# Altium schematic symbol library hphonglib.SchLib: 598 symbols (part 7 of 8)
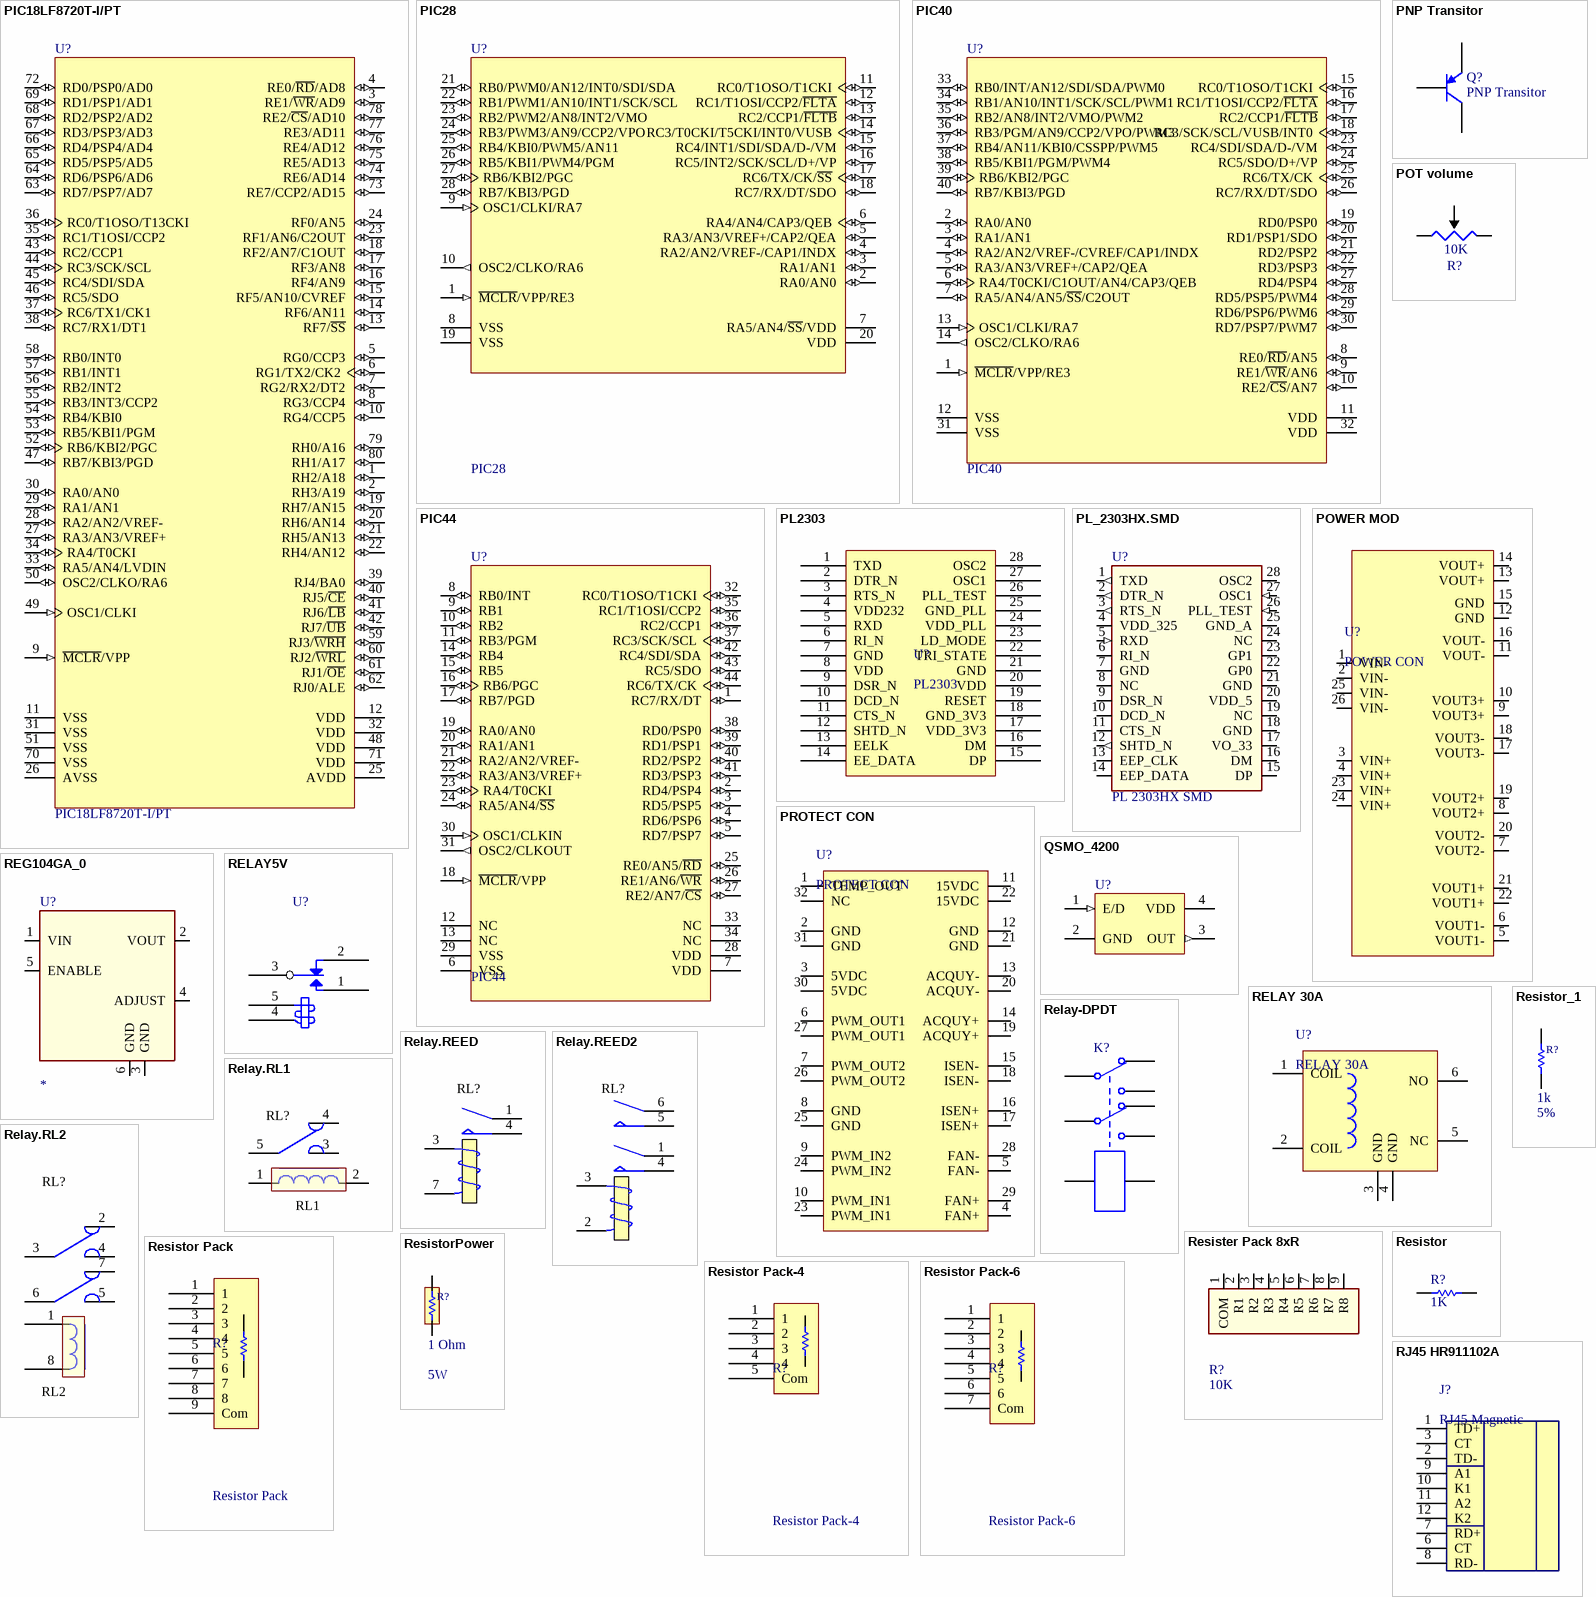
[diagram p37: symbols PIC18LF8720T-I/PT to RJ45 HR911102A]

## PIC44
designator U?
Enhanced FLASH Microcontroller, 8K (x14-Bit words) FLASH, 368 Bytes RAM, 40-Pin PDIP Lead-Free, Standard VDD Range, Industrial Temperature; Manufacturer: MicroChip; Note: 25mA sink/source per I/O.; Flash: 14 Kb; Volt: 2-5.5V; CPU Speed (MIPS): 5 MIPS; Published: 11-Oct-2004; LatestRevisionDate: 04-Mar-2005; LatestRevisionNote: Stylized 3D Model Added.; DatasheetVersion: DS39582B_2003; PackageVersion: 2003; PackageReference: PDIP600-40; Publisher: Altium Limited; PackageDescription: DIP, Plastic; 40 Leads; Row Spacing 15.24 mm; Pitch 2.54 mm; Code_JEDEC: MO-011; ComponentLink1Description: Manufacturer Link; ComponentLink1URL: http://www.microchip.com; ComponentLink2Description: Open DataSheet; ComponentLink2URL: H:\LIBRARY\LIBRARY.Datasheet\PIC16F87xA.pdf; ComponentLink3Description: Packaging Specification; ComponentLink3URL: http://ww1.microchip.com/downloads/en/PackagingSpec/00049AD.pdf; SRAM: 368 Bytes
footprint QFP-44_N (QFP, 44-Leads, Body 10x10 mm, Pitch 0.8mm)
pins: 1 RC7/RX/DT (io), 2 RD4/PSP4 (io), 3 RD5/PSP5 (io), 4 RD6/PSP6 (io), 5 RD7/PSP7 (io), 6 VSS (power), 7 VDD (power), 8 RB0/INT (io), 9 RB1 (io), 10 RB2 (io), 11 RB3/PGM (io), 12 NC, 13 NC, 14 RB4 (io), 15 RB5 (io), 16 RB6/PGC (io), 17 RB7/PGD (io), 18 ~{MCLR}/VPP (in), 19 RA0/AN0 (io), 20 RA1/AN1 (io), 21 RA2/AN2/VREF- (io), 22 RA3/AN3/VREF+ (io), 23 RA4/T0CKI (io), 24 RA5/AN4/~{SS} (io), 25 RE0/AN5/~{RD} (io), 26 RE1/AN6/~{WR} (io), 27 RE2/AN7/~{CS} (io), 28 VDD (power), 29 VSS (power), 30 OSC1/CLKIN (in), 31 OSC2/CLKOUT (out), 32 RC0/T1OSO/T1CKI (io), 33 NC, 34 NC, 35 RC1/T1OSI/CCP2 (io), 36 RC2/CCP1 (io), 37 RC3/SCK/SCL (io), 38 RD0/PSP0 (io), 39 RD1/PSP1 (io), 40 RD2/PSP2 (io), 41 RD3/PSP3 (io), 42 RC4/SDI/SDA (io), 43 RC5/SDO (io), 44 RC6/TX/CK (io)

## PL2303
designator U?
footprint PL2303 (SOP, 28-Leads, Body 10,2x5,3mm (max), Pitch 0,65mm, IPC Medium Density)
pins: 1 TXD, 2 DTR_N, 3 RTS_N, 4 VDD232, 5 RXD, 6 RI_N, 7 GND, 8 VDD, 9 DSR_N, 10 DCD_N, 11 CTS_N, 12 SHTD_N, 13 EELK, 14 EE_DATA, 15 DP, 16 DM, 17 VDD_3V3, 18 GND_3V3, 19 RESET, 20 VDD, 21 GND, 22 TRI_STATE, 23 LD_MODE, 24 VDD_PLL, 25 GND_PLL, 26 PLL_TEST, 27 OSC1, 28 OSC2

## PL_2303HX.SMD
designator U?, comment PL 2303HX SMD
USB to serial Bridge; Vendor: Digikey; Manufacturer: *; Published: 13-April-2009; Publisher: Hoang Nguyen; ComponentLink1Description: Digikey Part Link; ComponentLink2Description: Open Datasheet; ComponentLink2URL: H:\LIBRARY\LIBRARY.Datasheet\; Price: 25000VND
footprint SSOP-28 (SSOP, Plastic; 28 Leads; Body Width 5.2 mm; Pitch 0.65 mm)
footprint SSOP-28N (SSOP, Plastic; 28 Leads; Body Width 5.2 mm; Pitch 0.65 mm)
pins: 1 TXD (out), 2 DTR_N (out), 3 RTS_N (out), 4 VDD_325 (power), 5 RXD (in), 6 RI_N (io), 7 GND (power), 8 NC, 9 DSR_N (io), 10 DCD_N (io), 11 CTS_N (io), 12 SHTD_N (out), 13 EEP_CLK (io), 14 EEP_DATA (io), 15 DP (io), 16 DM (io), 17 VO_33 (power), 18 GND (power), 19 NC, 20 VDD_5 (power), 21 GND (power), 22 GP0 (io), 23 GP1 (io), 24 NC, 25 GND_A (power), 26 PLL_TEST (in), 27 OSC1 (in), 28 OSC2 (io)

## PNP Transitor
designator Q?
PNP General Purpose Amplifier; Published: 8-Jun-2000; LatestRevisionDate: 15-Jan-2003; LatestRevisionNote: PCB Footprint 'BCY-W3/D4.7' replaced; DatasheetDocument: 1997; PackageDocument: Sep-1998; PackageReference: TO-92A; Publisher: Altium Limited; Code_JEDEC: TO-92A; ComponentLink1Description: Manufacturer Link; ComponentLink1URL: http://www.fairchildsemi.com/; ComponentLink2Description: Datasheet; ComponentLink2URL: http://www.fairchildsemi.com/ds/2N%2F2N3906.pdf
footprint TO-247 (TO-247; 3 Leads; Solder Pad 35mil); pin to pad 1>3 2>1 3>2
footprint TO-92A (TO, Flat Index; 3 In-Line, Axial Leads; Body Dia. 4.5mm; Leads 0.51 x 0.48 mm (max); ECB Position)
footprint TO-3 (Oval Flange Mount with (2) Offset Leads; Pin Spacing 10.92 mm; Lead Dia. 1.06 mm (max))
footprint TO-220-3 (TO-220; 3 Leads; Solder Pad 35mil)
footprint TO-220-3-Heatsink (TO-220; Heatsink; 3 Leads; Solder Pad 35mil)
footprint TO-247-V (TO-247; Vertical; 3 Leads; Solder Pad 35mil)
pins: 1 E, 2 B, 3 C

## POT volume
designator R?  value 10K  (hidden comment: *)
POT volume; Vendor: Digikey; Published: 8-Jun-2000; LatestRevisionDate: 04-Mar-2005; LatestRevisionNote: PCB Footprint replaced.; PackageReference: J1-0603; Publisher: Altium Limited; ComponentLink1Description: Digikey Part Link; ComponentLink2Description: Open Datasheet; ComponentLink2URL: H:\LIBRARY\LIBRARY.Datasheet\; Price: 2000 VND
signal-integrity model TRIM
footprint POT volume
pins: 1, 2, 3

## POWER MOD
designator U?, comment POWER CON
footprint POWER CON
pins: 1 VIN-, 2 VIN-, 3 VIN+, 4 VIN+, 5 VOUT1-, 6 VOUT1-, 7 VOUT2-, 8 VOUT2+, 9 VOUT3+, 10 VOUT3+, 11 VOUT-, 12 GND, 13 VOUT+, 14 VOUT+, 15 GND, 16 VOUT-, 17 VOUT3-, 18 VOUT3-, 19 VOUT2+, 20 VOUT2-, 21 VOUT1+, 22 VOUT1+, 23 VIN+, 24 VIN+, 25 VIN-, 26 VIN-

## PROTECT CON
designator U?
footprint HDR2X16_CEN
pins: 1 TEMP_OUT, 2 GND, 3 5VDC, 4 FAN+, 5 FAN-, 6 PWM_OUT1, 7 PWM_OUT2, 8 GND, 9 PWM_IN2, 10 PWM_IN1, 11 15VDC, 12 GND, 13 ACQUY-, 14 ACQUY+, 15 ISEN-, 16 ISEN+, 17 ISEN+, 18 ISEN-, 19 ACQUY+, 20 ACQUY-, 21 GND, 22 15VDC, 23 PWM_IN1, 24 PWM_IN2, 25 GND, 26 PWM_OUT2, 27 PWM_OUT1, 28 FAN-, 29 FAN+, 30 5VDC, 31 GND, 32 NC

## QSMO_4200
designator U?
QSMO - 4200 SERIES, 40MHz, SURFACE MOUNT CRYSTAL OSCILLATOR; Vendor: Digikey; Published: 5-Jan-2004; DatasheetDocument: 15-Jul-02; Publisher: Altium Limited; ComponentLink1Description: Digikey Part Link; ComponentLink2Description: Open Datasheet; ComponentLink2URL: H:\LIBRARY\LIBRARY.Datasheet\
footprint QSMO_4200 (Surface Mount 40MHz Crystal, 7.5mm x 5mm (LxW))
pcadlib QSMO_4200 (Surface Mount 40MHz Crystal, 7.5mm x 5mm (LxW))
pins: 1 E/D (in) "Low Disables Clock", 2 GND (power), 3 OUT (out) "Output", 4 VDD (power)

## REG104GA_0
designator U?
ComponentLink1Description: Digikey Part Link; ComponentLink2Description: Open Datasheet; ComponentLink2URL: H:\LIBRARY\LIBRARY.Datasheet\
pins: 1 VIN, 2 VOUT, 3 GND (power), 4 ADJUST, 5 ENABLE, 6 GND (power)

## RELAY5V
designator U?  (value not drawn)
Ro le 5V; Vendor: Digikey; Published: 13-April-2009; Publisher: Hoang Nguyen; ComponentLink1Description: Digikey Part Link; ComponentLink2Description: Open Datasheet; ComponentLink2URL: H:\LIBRARY\LIBRARY.Datasheet\
footprint Relay5V
pins: 1 NO2, 2 NC2, 3 COMMON2, 4 COIL2, 5 COIL1

## RELAY 30A
designator U?
footprint RELAY 30A
pins: 1 COIL, 2 COIL, 3 GND, 4 GND, 5 NC, 6 NO

## Relay-DPDT
designator K?
Dual-Pole Dual-Throw Relay; Published: 24-Mar-1999; LatestRevisionDate: 17-Jul-2002; LatestRevisionNote: Re-released for DXP Platform.; PackageReference: DIP-P8; Publisher: Altium Limited
footprint Relay-8 (Relay; 8 Leads; Solder Pad 35mil)
pins: 1, 2, 3, 4, 5, 6, 7, 8

## Relay.REED
designator RL?  (value not drawn)
Reed relè; Vendor: Digikey; Value: *; Published: 13-April-2009; Publisher: Hoang Nguyen; ComponentLink1Description: Digikey Part Link; ComponentLink2Description: Open Datasheet; ComponentLink2URL: H:\LIBRARY\LIBRARY.Datasheet\
footprint REED
pins: 1, 3, 4, 7

## Relay.REED2
designator RL?  (value not drawn)
Reed relè 2 way; Vendor: Digikey; Value: *; Published: 13-April-2009; Publisher: Hoang Nguyen; ComponentLink1Description: Digikey Part Link; ComponentLink2Description: Open Datasheet; ComponentLink2URL: H:\LIBRARY\LIBRARY.Datasheet\
footprint REED2
pins: 1, 2, 3, 4, 5, 6

## Relay.RL1
designator RL?  (value not drawn)
Relè body 29x12mm - 1 way - FEME; Vendor: Digikey; Value: *; Published: 13-April-2009; Publisher: Hoang Nguyen; ComponentLink1Description: Digikey Part Link; ComponentLink2Description: Open Datasheet; ComponentLink2URL: H:\LIBRARY\LIBRARY.Datasheet\
footprint RL1 (Relè body 29x12mm - 1 way - FEME)
pins: 1, 2, 3, 4, 5
text: RL1

## Relay.RL2
designator RL?  (value not drawn)
Relè body 29x12mm - 2 ways - FEME; Vendor: Digikey; Value: *; Published: 13-April-2009; Publisher: Hoang Nguyen; ComponentLink1Description: Digikey Part Link; ComponentLink2Description: Open Datasheet; ComponentLink2URL: H:\LIBRARY\LIBRARY.Datasheet\
footprint RL2 (Relè body 29x12mm - 2 way - FEME)
footprint RL2N (Relè body 29x12mm - 2 way - FEME)
pins: 1, 2, 3, 4, 5, 6, 7, 8
text: RL2

## Resister Pack 8xR
designator R?, comment 10K
8xR Package; Vendor: Digikey; Publisher: Hoang Nguyen; Published: 13-April-2009; ComponentLink1Description: Digikey Part Link; ComponentLink2Description: Open Datasheet; Value: 10K; ComponentLink2URL: H:\LIBRARY\LIBRARY.Datasheet\
footprint Rpack8
footprint Rpack8M
pins: 1 COM, 2 R1, 3 R2, 4 R3, 5 R4, 6 R5, 7 R6, 8 R7, 9 R8

## Resistor
designator R?  value 1K  (hidden comment: Resistor)
Published: 8-Jun-2000; LatestRevisionDate: 17-Jul-2002; LatestRevisionNote: Re-released for DXP Platform.; PackageReference: AXIAL-0.3; Publisher: Altium Limited
footprint Res 49mm (10W) (Resistor; 2 Leads; 10W; Solder Pad 35mil)
footprint Res 52mm (15W) (Resistor; 2 Leads; 15W; Solder Pad 35mil)
footprint R-0805 (Chip Resistor; Body 2.0 x 1.3 mm (LxW typ))
footprint Res 10mm (1/2W) (Resistor; 2 Leads; 1/2W; Solder Pad 35mil)
footprint Res 25mm (5W) (Resistor; 2 Leads; 5W; Solder Pad 35mil)
footprint Res 18mm (1W) (Resistor; 2 Leads; 1W; Solder Pad 35mil)
footprint Res 25mm (3W) (Resistor; 2 Leads; 3W; Solder Pad 35mil)
pins: 1, 2

## Resistor Pack
designator R?
Isolated Resistor Network; Published: 24-Mar-1999; LatestRevisionDate: 17-Jul-2002; LatestRevisionNote: Re-released for DXP Platform.; PackageReference: SSOP16; Publisher: Altium Limited; Code_JEDEC: MO-150-AC
footprint Res Array (Resistor Array, 9-pin)
pins: 1, 2, 3, 4, 5, 6, 7, 8, 9 Com

## Resistor Pack-4
designator R?
Isolated Resistor Network; Published: 24-Mar-1999; LatestRevisionDate: 17-Jul-2002; LatestRevisionNote: Re-released for DXP Platform.; PackageReference: SSOP16; Publisher: Altium Limited; Code_JEDEC: MO-150-AC
footprint Res Array-4 (Resistor Array, 9-pin)
pins: 1, 2, 3, 4, 5 Com

## Resistor Pack-6
designator R?
Isolated Resistor Network; Published: 24-Mar-1999; LatestRevisionDate: 17-Jul-2002; LatestRevisionNote: Re-released for DXP Platform.; PackageReference: SSOP16; Publisher: Altium Limited; Code_JEDEC: MO-150-AC
footprint Res Array-6 (Resistor Array; 6 Leads; Solder Pad 35mil)
pins: 1, 2, 3, 4, 5, 6, 7 Com

## Resistor_1
designator R?, comment Tollerance: 5%  (hidden comment: 1k)
Resistor; AEMS Code: 1200430; Vendor: Digikey; Published: 17-3-2009; Publisher: Hoang Nguyen; ComponentLink1Description: Digikey Part Link; ComponentLink2Description: Open Datasheet; ComponentLink2URL: H:\LIBRARY\LIBRARY.Datasheet\; Value: 1k
footprint R1608-0603 (Resister Chip 0603 package)
footprint R2012-0805 (Resister Chip 0805 package)
footprint Res (Res 8mm*2mm)
footprint ResN (Res 8mm*2mm)
pins: 1, 2

## ResistorPower
designator R?, comment Power: 5W  (hidden comment: 1 Ohm)
Power Resistor; AEMS Code: 1200430; Vendor: Digikey; Published: 17-3-2009; Publisher: Hoang Nguyen; ComponentLink1Description: Digikey Part Link; ComponentLink2Description: Open Datasheet; ComponentLink2URL: H:\LIBRARY\LIBRARY.Datasheet\; Value: 1 Ohm
footprint Res5W (Kich thuoc 22(mm) * 10(mm))
footprint Res1W (Kich thuoc 17(mm) * 5(mm))
footprint Res1W_Vertical (Res 8mm*2mm)
footprint Res1W_N
footprint Res1W_Vert_N (Res 8mm*2mm)
footprint Res5W_N (Kich thuoc 22(mm) * 10(mm))
pins: 1, 2

## RJ45 HR911102A
designator J?, comment RJ45 Magnetic
Price: 40.000VND; ComponentLink2Description: Open DataSheet; ComponentLink2URL: H:\LIBRARY\LIBRARY.Datasheet\RJ45.pdf
footprint RJ45 with magnetic
pins: 1 TD+, 2 TD-, 3 CT, 6 CT, 7 RD+, 8 RD-, 9 A1, 10 K1, 11 A2, 12 K2

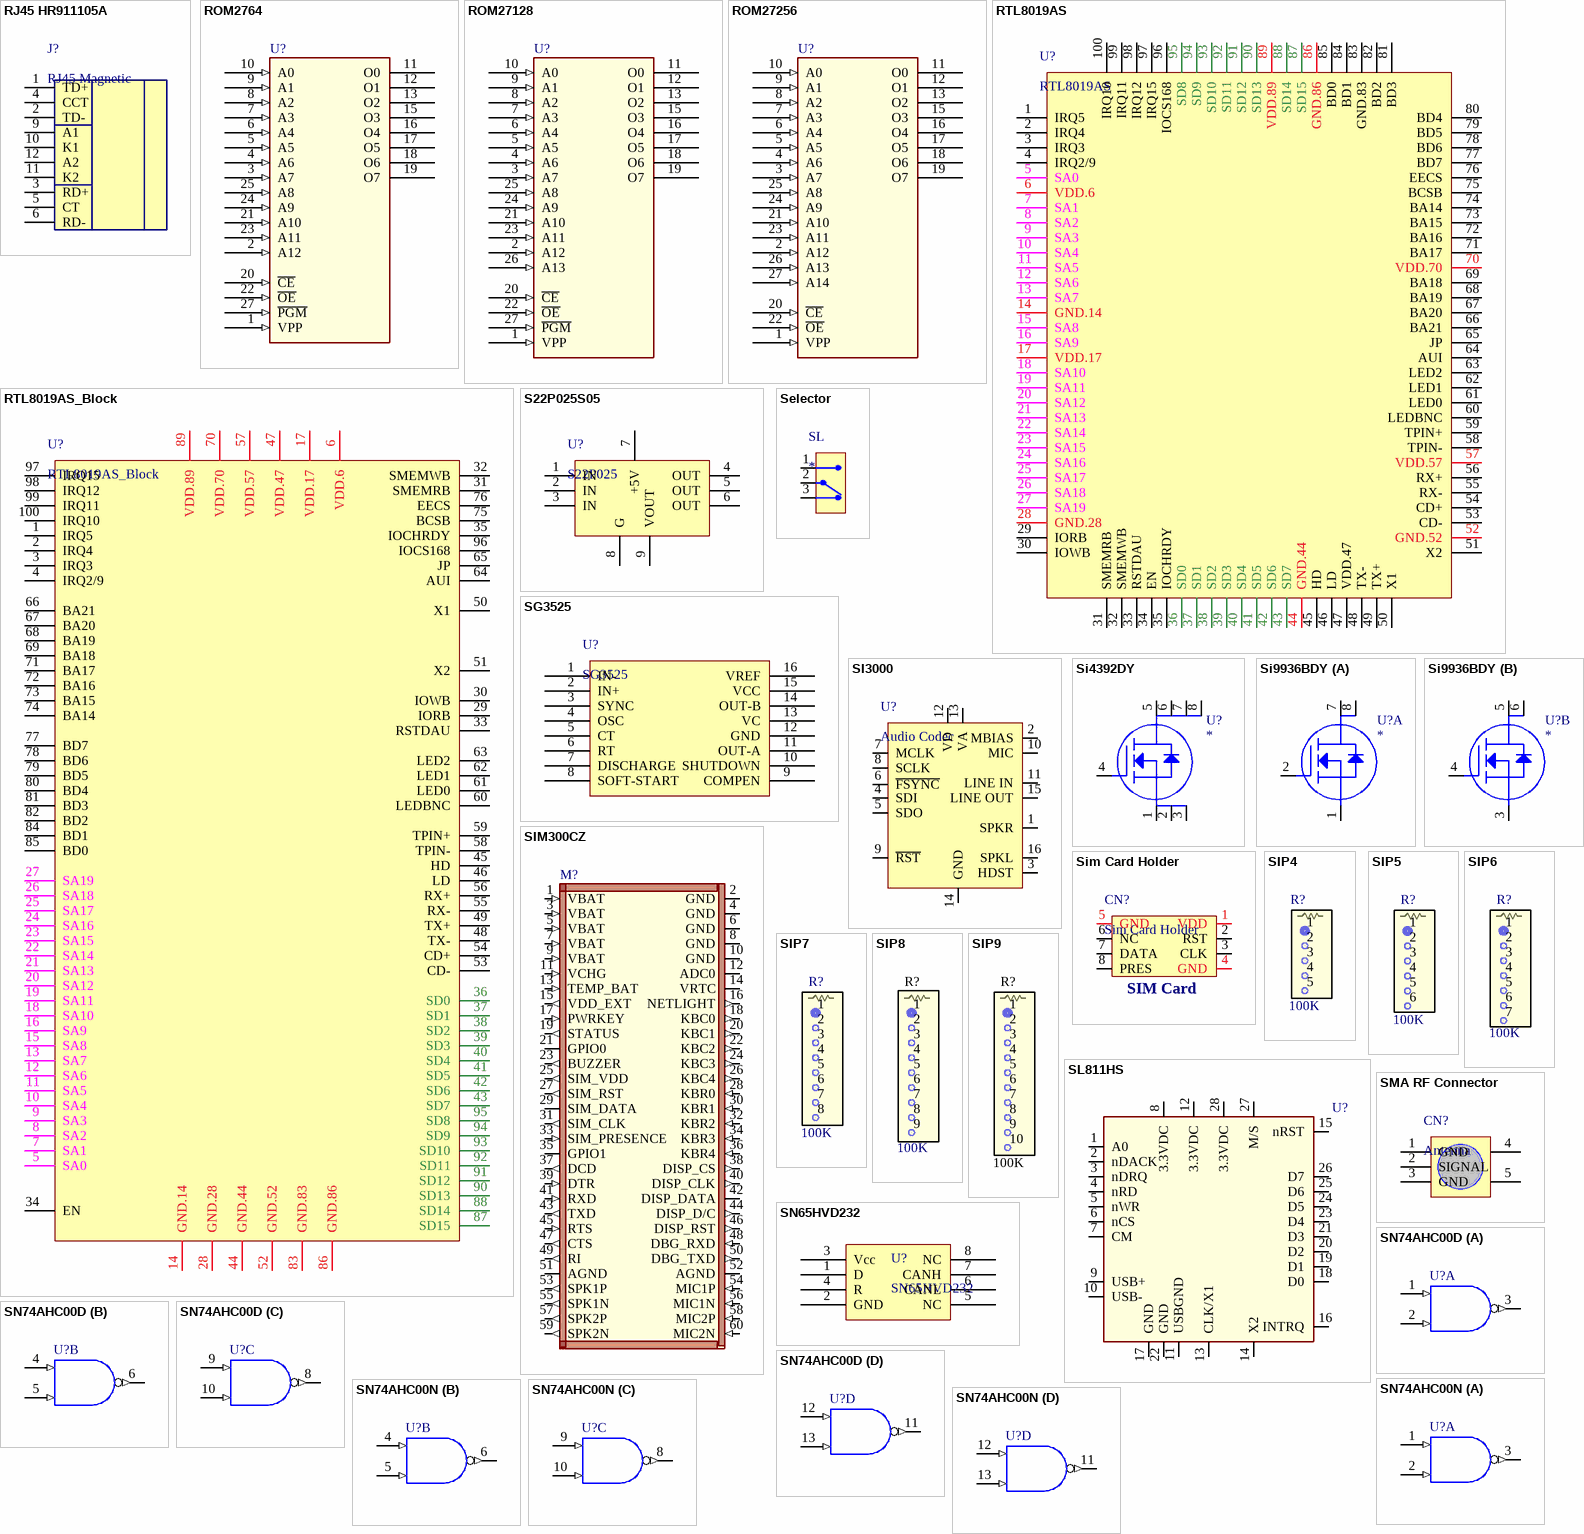
[diagram p23: symbols RJ45 HR911105A to SN74AHC00N]

## RJ45 HR911105A
designator J?, comment RJ45 Magnetic
Price: 40.000VND; ComponentLink2Description: Open DataSheet; ComponentLink2URL: H:\LIBRARY\LIBRARY.Datasheet\RJ45.pdf
footprint RJ45 with magnetic
pins: 1 TD+, 2 TD-, 3 RD+, 4 CCT, 5 CT, 6 RD-, 9 A1, 10 K1, 11 K2, 12 A2

## ROM2764
designator U?  (value not drawn)
ROM Memory; Vendor: Digikey; Published: 13-April-2009; Publisher: Hoang Nguyen; ComponentLink1Description: Digikey Part Link; ComponentLink2Description: Open Datasheet; ComponentLink2URL: H:\LIBRARY\LIBRARY.Datasheet\
pins: 1 VPP (in), 2 A12 (in), 3 A7 (in), 4 A6 (in), 5 A5 (in), 6 A4 (in), 7 A3 (in), 8 A2 (in), 9 A1 (in), 10 A0 (in), 11 O0 (hiz), 12 O1 (hiz), 13 O2 (hiz), 14 GND (power) hidden to GND, 15 O3 (hiz), 16 O4 (hiz), 17 O5 (hiz), 18 O6 (hiz), 19 O7 (hiz), 20 ~{CE} (in), 21 A10 (in), 22 ~{OE} (in), 23 A11 (in), 24 A9 (in), 25 A8 (in), 27 ~{PGM} (in), 28 VCC (power) hidden to VCC

## ROM27128
designator U?  (value not drawn)
Vendor: Digikey; Published: 13-April-2009; Publisher: Hoang Nguyen; ComponentLink1Description: Digikey Part Link; ComponentLink2Description: Open Datasheet; ComponentLink2URL: H:\LIBRARY\LIBRARY.Datasheet\
pins: 1 VPP (in), 2 A12 (in), 3 A7 (in), 4 A6 (in), 5 A5 (in), 6 A4 (in), 7 A3 (in), 8 A2 (in), 9 A1 (in), 10 A0 (in), 11 O0 (hiz), 12 O1 (hiz), 13 O2 (hiz), 14 GND (power) hidden to GND, 15 O3 (hiz), 16 O4 (hiz), 17 O5 (hiz), 18 O6 (hiz), 19 O7 (hiz), 20 ~{CE} (in), 21 A10 (in), 22 ~{OE} (in), 23 A11 (in), 24 A9 (in), 25 A8 (in), 26 A13 (in), 27 ~{PGM} (in), 28 VCC (power) hidden to VCC

## ROM27256
designator U?  (value not drawn)
Vendor: Digikey; Published: 13-April-2009; Publisher: Hoang Nguyen; ComponentLink1Description: Digikey Part Link; ComponentLink2Description: Open Datasheet; ComponentLink2URL: H:\LIBRARY\LIBRARY.Datasheet\
pins: 1 VPP (in), 2 A12 (in), 3 A7 (in), 4 A6 (in), 5 A5 (in), 6 A4 (in), 7 A3 (in), 8 A2 (in), 9 A1 (in), 10 A0 (in), 11 O0 (hiz), 12 O1 (hiz), 13 O2 (hiz), 14 GND (power) hidden to GND, 15 O3 (hiz), 16 O4 (hiz), 17 O5 (hiz), 18 O6 (hiz), 19 O7 (hiz), 20 ~{CE} (in), 21 A10 (in), 22 ~{OE} (in), 23 A11 (in), 24 A9 (in), 25 A8 (in), 26 A13 (in), 27 A14 (in), 28 VCC (power) hidden to VCC

## RTL8019AS
designator U?
Realtek Full-Duplex Ethernet  Controller with Plug and Play Function; Voltage: 5V; Price: 80.000VND; Manufacturer: Realtek; ComponentLink2Description: Open Datasheet; ComponentLink2URL: H:\LIBRARY\LIBRARY.Datasheet\RTL8019as.pdf
footprint Model Name (Footprint not found)
footprint RTL8019AS (100-Pin Ceramic Quad Flat Pack 0.635 mm Pitch, IPC Medium Density)
pins: 1 IRQ5 (power), 2 IRQ4 (power), 3 IRQ3, 4 IRQ2/9, 5 SA0, 6 VDD.6, 7 SA1, 8 SA2, 9 SA3, 10 SA4, 11 SA5, 12 SA6, 13 SA7, 14 GND.14 (power), 15 SA8, 16 SA9, 17 VDD.17, 18 SA10, 19 SA11, 20 SA12, 21 SA13, 22 SA14, 23 SA15, 24 SA16, 25 SA17, 26 SA18, 27 SA19, 28 GND.28, 29 IORB, 30 IOWB, 31 SMEMRB, 32 SMEMWB, 33 RSTDAU, 34 EN, 35 IOCHRDY, 36 SD0, 37 SD1, 38 SD2, 39 SD3, 40 SD4, 41 SD5, 42 SD6, 43 SD7, 44 GND.44, 45 HD, 46 LD, 47 VDD.47, 48 TX-, 49 TX+, 50 X1, 51 X2, 52 GND.52, 53 CD-, 54 CD+, 55 RX-, 56 RX+, 57 VDD.57, 58 TPIN-, 59 TPIN+, 60 LEDBNC, 61 LED0, 62 LED1, 63 LED2, 64 AUI, 65 JP, 66 BA21, 67 BA20, 68 BA19, 69 BA18, 70 VDD.70, 71 BA17, 72 BA16, 73 BA15, 74 BA14, 75 BCSB, 76 EECS, 77 BD7, 78 BD6, 79 BD5, 80 BD4, 81 BD3, 82 BD2, 83 GND.83, 84 BD1, 85 BD0, 86 GND.86, 87 SD15, 88 SD14, 89 VDD.89, 90 SD13, 91 SD12, 92 SD11, 93 SD10, 94 SD9, 95 SD8, 96 IOCS168, 97 IRQ15, 98 IRQ12, 99 IRQ11, 100 IRQ10

## RTL8019AS_Block
designator U?
Realtek Full-Duplex Ethernet  Controller with Plug and Play Function; Voltage: 5V; Price: 80.000VND; Manufacturer: Realtek; ComponentLink2Description: Open Datasheet; ComponentLink2URL: H:\LIBRARY\LIBRARY.Datasheet\RTL8019as.pdf
footprint Model Name (Footprint not found)
footprint RTL8019AS (100-Pin Ceramic Quad Flat Pack 0.635 mm Pitch, IPC Medium Density)
pins: 1 IRQ5 (power), 2 IRQ4 (power), 3 IRQ3, 4 IRQ2/9, 5 SA0, 6 VDD.6, 7 SA1, 8 SA2, 9 SA3, 10 SA4, 11 SA5, 12 SA6, 13 SA7, 14 GND.14 (power), 15 SA8, 16 SA9, 17 VDD.17, 18 SA10, 19 SA11, 20 SA12, 21 SA13, 22 SA14, 23 SA15, 24 SA16, 25 SA17, 26 SA18, 27 SA19, 28 GND.28, 29 IORB, 30 IOWB, 31 SMEMRB, 32 SMEMWB, 33 RSTDAU, 34 EN, 35 IOCHRDY, 36 SD0, 37 SD1, 38 SD2, 39 SD3, 40 SD4, 41 SD5, 42 SD6, 43 SD7, 44 GND.44, 45 HD, 46 LD, 47 VDD.47, 48 TX-, 49 TX+, 50 X1, 51 X2, 52 GND.52, 53 CD-, 54 CD+, 55 RX-, 56 RX+, 57 VDD.57, 58 TPIN-, 59 TPIN+, 60 LEDBNC, 61 LED0, 62 LED1, 63 LED2, 64 AUI, 65 JP, 66 BA21, 67 BA20, 68 BA19, 69 BA18, 70 VDD.70, 71 BA17, 72 BA16, 73 BA15, 74 BA14, 75 BCSB, 76 EECS, 77 BD7, 78 BD6, 79 BD5, 80 BD4, 81 BD3, 82 BD2, 83 GND.83, 84 BD1, 85 BD0, 86 GND.86, 87 SD15, 88 SD14, 89 VDD.89, 90 SD13, 91 SD12, 92 SD11, 93 SD10, 94 SD9, 95 SD8, 96 IOCS168, 97 IRQ15, 98 IRQ12, 99 IRQ11, 100 IRQ10

## S22P025S05
designator U?, comment S22P025
footprint S22P025S05 (Tamura)
pins: 1 IN, 2 IN, 3 IN, 4 OUT, 5 OUT, 6 OUT, 7 +5V, 8 G, 9 VOUT

## Selector
designator SL
ComponentLink2URL: H:\LIBRARY\LIBRARY.Datasheet\
footprint Selector (Footprint not found)
pins: 1, 2, 3

## SG3525
designator U?
footprint DIP16 (DIP; 16 Leads; Row Spacing 7.62 mm; Pitch 2.54 mm)
pins: 1 IN-, 2 IN+, 3 SYNC, 4 OSC, 5 CT, 6 RT, 7 DISCHARGE, 8 SOFT-START, 9 COMPEN, 10 SHUTDOWN, 11 OUT-A, 12 GND, 13 VC, 14 OUT-B, 15 VCC, 16 VREF

## SI3000
designator U?, comment Audio Codec
VOICEBAND CODEC WITH MICROPHONE/SPEAKER DRIVE; Manufacturer: Silicon Lab; Power Supply: 3V3 - 5V; Headphone Resistor: 32 Ohm; Sample rate: 4-12 kHz; Mic Pre-Amp: 30dB
footprint SOIC16_150_N (Small Outline; 16 Leads; Body Width 3.5 mm; Pitch 1.27 mm)
pins: 1 SPKR, 2 MBIAS, 3 HDST, 4 SDI, 5 SDO, 6 ~{FSYNC}, 7 MCLK, 8 SCLK, 9 ~{RST}, 10 MIC, 11 LINE IN, 12 VD, 13 VA, 14 GND, 15 LINE OUT, 16 SPKL

## Si4392DY
designator U?
ComponentLink1Description: Digikey Part Link; ComponentLink2Description: Open Datasheet; ComponentLink2URL: H:\LIBRARY\LIBRARY.Datasheet\
pins: 1 S (power), 2 S (power), 3 S (power), 4 G, 5 D (power), 6 D (power), 7 D (power), 8 D (power)

## Si9936BDY
designator U?
ComponentLink1Description: Digikey Part Link; ComponentLink2Description: Open Datasheet; ComponentLink2URL: H:\LIBRARY\LIBRARY.Datasheet\
part A pins: 1 S (power), 2 G, 7 D (power), 8 D (power)
part B pins: 3 S (power), 4 G, 5 D (power), 6 D (power)

## SIM300CZ
designator M?  (value not drawn)
SIM300CZ; Manufacturer: SimCom; Publisher: Hoang Nguyen; ComponentLink1Description: Digikey Part link; ComponentLink2Description: Open DataSheet; ComponentLink2URL: H:\LIBRARY\LIBRARY.Datasheet\
footprint ASTRON 1590060-093
footprint SIM300CZ Module (GSM Module)
pins: 1 VBAT (in), 2 GND (power), 3 VBAT (in), 4 GND (power), 5 VBAT (in), 6 GND (power), 7 VBAT (in), 8 GND (power), 9 VBAT (in), 10 GND (power), 11 VCHG (in), 12 ADC0, 13 TEMP_BAT (in), 14 VRTC, 15 VDD_EXT (out), 16 NETLIGHT (out), 17 PWRKEY (in), 18 KBC0 (out), 19 STATUS (out), 20 KBC1 (out), 21 GPIO0 (io), 22 KBC2 (out), 23 BUZZER (out), 24 KBC3 (out), 25 SIM_VDD (out), 26 KBC4 (out), 27 SIM_RST (out), 28 KBR0 (in), 29 SIM_DATA (io), 30 KBR1 (in), 31 SIM_CLK (out), 32 KBR2 (in), 33 SIM_PRESENCE (in), 34 KBR3 (in), 35 GPIO1 (io), 36 KBR4 (in), 37 DCD (out), 38 DISP_CS (out), 39 DTR (in), 40 DISP_CLK (out), 41 RXD (in), 42 DISP_DATA (io), 43 TXD (out), 44 DISP_D/C (out), 45 RTS (in), 46 DISP_RST (out), 47 CTS (out), 48 DBG_RXD (in), 49 RI (out), 50 DBG_TXD (out), 51 AGND (power), 52 AGND (power), 53 SPK1P (out), 54 MIC1P (in), 55 SPK1N (out), 56 MIC1N (in), 57 SPK2P (out), 58 MIC2P (in), 59 SPK2N (out), 60 MIC2N (in)

## Sim Card Holder
designator CN?
ComponentLink2Description: Open DataSheet; ComponentLink2URL: H:\LIBRARY\LIBRARY.Datasheet\
footprint Sim card holder
pins: 1 VDD, 2 RST, 3 CLK, 4 GND, 5 GND, 6 NC, 7 DATA, 8 PRES
text: SIM Card

## SIP4
designator R?  value 100K  (hidden comment: *)
4 resistors array single in line - 2.54; Vendor: Digikey; Published: 13-April-2009; Publisher: Hoang Nguyen; ComponentLink1Description: Digikey Part Link; ComponentLink2Description: Open Datasheet; ComponentLink2URL: H:\LIBRARY\LIBRARY.Datasheet\
footprint SIP-4
pins: 1 C, 2 R1, 3 R2, 4 R3, 5 R4

## SIP5
designator R?  value 100K  (hidden comment: *)
5 resistors array single in line - 2.54; Vendor: Digikey; Published: 13-April-2009; Publisher: Hoang Nguyen; ComponentLink1Description: Digikey Part Link; ComponentLink2Description: Open Datasheet; ComponentLink2URL: H:\LIBRARY\LIBRARY.Datasheet\
footprint SIP-5
pins: 1 C, 2 R1, 3 R2, 4 R3, 5 R4, 6 R5

## SIP6
designator R?  value 100K  (hidden comment: *)
6 resistors array single in line - 2.54; Vendor: Digikey; Published: 13-April-2009; Publisher: Hoang Nguyen; ComponentLink1Description: Digikey Part Link; ComponentLink2Description: Open Datasheet; ComponentLink2URL: H:\LIBRARY\LIBRARY.Datasheet\
footprint SIP-6
pins: 1 C, 2 R1, 3 R2, 4 R3, 5 R4, 6 R5, 7 R6

## SIP7
designator R?  value 100K  (hidden comment: *)
7 resistors array single in line - 2.54; Vendor: Digikey; Published: 13-April-2009; Publisher: Hoang Nguyen; ComponentLink1Description: Digikey Part Link; ComponentLink2Description: Open Datasheet; ComponentLink2URL: H:\LIBRARY\LIBRARY.Datasheet\
footprint SIP-7
pins: 1 C, 2 R1, 3 R2, 4 R3, 5 R4, 6 R5, 7 R6, 8 R7

## SIP8
designator R?  value 100K  (hidden comment: *)
8 resistors array single in line - 2.54; Vendor: Digikey; Published: 13-April-2009; Publisher: Hoang Nguyen; ComponentLink1Description: Digikey Part Link; ComponentLink2Description: Open Datasheet; ComponentLink2URL: H:\LIBRARY\LIBRARY.Datasheet\
footprint SIP-8
pins: 1 C, 2 R1, 3 R2, 4 R3, 5 R4, 6 R5, 7 R6, 8 R7, 9 R8

## SIP9
designator R?  value 100K  (hidden comment: *)
9 resistors array single in line - 2.54; Vendor: Digikey; Published: 13-April-2009; Publisher: Hoang Nguyen; ComponentLink1Description: Digikey Part Link; ComponentLink2Description: Open Datasheet; ComponentLink2URL: H:\LIBRARY\LIBRARY.Datasheet\
footprint SIP-9
pins: 1 C, 2 R1, 3 R2, 4 R3, 5 R4, 6 R5, 7 R6, 8 R7, 9 R8, 10 R9

## SL811HS
designator U?  (value not drawn)
Embedded USB host/slave controller; Manufacturer: Cypress Semiconductor; Vendor: Digikey; Published: 13-April-2009; Publisher: Hoang Nguyen; ComponentLink1Description: Digikey Part Link; ComponentLink2Description: Open Datasheet; ComponentLink2URL: H:\LIBRARY\LIBRARY.Datasheet\
footprint PLCC-28 (Footprint not found)
pins: 1 A0, 2 nDACK, 3 nDRQ, 4 nRD, 5 nWR, 6 nCS, 7 CM, 8 3.3VDC, 9 USB+, 10 USB-, 11 USBGND, 12 3.3VDC, 13 CLK/X1, 14 X2, 15 nRST, 16 INTRQ, 17 GND, 18 D0, 19 D1, 20 D2, 21 D3, 22 GND, 23 D4, 24 D5, 25 D6, 26 D7, 27 M/S, 28 3.3VDC

## SMA RF Connector
designator CN?, comment Antenna
footprint SMA RF Connector
pins: 1 GND, 2 SIGNAL, 3 GND, 4, 5

## SN65HVD232
designator U?
3.3-V CAN Transceivers
footprint SOIC-8N (SOIC, 8-Leads, Body 4.9x3.9mm, Pitch 1.27mm, IPC High Density)
pins: 1 D, 2 GND, 3 Vcc, 4 R, 5 NC, 6 CANL, 7 CANH, 8 NC

## SN74AHC00D
designator U?
Quadruple 2-Input Positive-NAND Gate; Published: 8-Jun-2000; LatestRevisionDate: 13-Apr-2006; LatestRevisionNote: IPC-7351 Footprint Added.; DatasheetVersion: Jun-1998; PackageVersion: Jan-1998; PackageReference: D014; Publisher: Altium Limited; PackageDescription: 14-Pin Small Outline Integrated Circuit 1.27 mm Pitch; Code_IPC: SOIC127P600-14; ComponentLink1Description: Manufacturer Link; ComponentLink1URL: http://www.ti.com/; ComponentLink2Description: Datasheet; ComponentLink2URL: http://www-s.ti.com/sc/ds/sn74ahc00.pdf; ComponentLink3Description: Packaging Specification; ComponentLink3URL: http://focus.ti.com/lit/ml/mpds177/mpds177.pdf
footprint SSOP-14 (Shrink Small Outline, Plastic, Thin; 14 Leads; Body Width 4.4 mm; Pitch 0.65 mm)
signal-integrity model SN74AHC00D
footprint SOIC14 (Small Outline; 14 Leads; Body Width 3.9 mm; Pitch 1.27 mm)
pins on every part: 7 GND (power) hidden to GND, 14 VCC (power) hidden to VCC
part A pins: 1 A (in), 2 B (in), 3 Y (out)
part B pins: 4 A (in), 5 B (in), 6 Y (out)
part C pins: 8 Y (out), 9 A (in), 10 B (in)
part D pins: 11 Y (out), 12 A (in), 13 B (in)

## SN74AHC00N
designator U?
Quadruple 2-Input Positive-NAND Gate; Published: 8-Jun-2000; LatestRevisionDate: 04-Mar-2005; LatestRevisionNote: Stylized 3D Model Added.; DatasheetVersion: Jun-1998; PackageVersion: Oct-1995; PackageReference: N014; Publisher: Altium Limited; PackageDescription: DIP; 14 Leads; Row Spacing 7.62 mm; Pitch 2.54 mm; ComponentLink1Description: Manufacturer Link; ComponentLink1URL: http://www.ti.com/; ComponentLink2Description: Datasheet; ComponentLink2URL: http://www-s.ti.com/sc/ds/sn74ahc00.pdf; ComponentLink3Description: Packaging Specification; ComponentLink3URL: http://focus.ti.com/lit/ml/mpdi002c/mpdi002c.pdf
footprint DIP14N (DIP; 14 Leads; Row Spacing 7.62 mm; Pitch 2.54 mm)
signal-integrity model SN74AHC00N
pins on every part: 7 GND (power) hidden to GND, 14 VCC (power) hidden to VCC
part A pins: 1 A (in), 2 B (in), 3 Y (out)
part B pins: 4 A (in), 5 B (in), 6 Y (out)
part C pins: 8 Y (out), 9 A (in), 10 B (in)
part D pins: 11 Y (out), 12 A (in), 13 B (in)

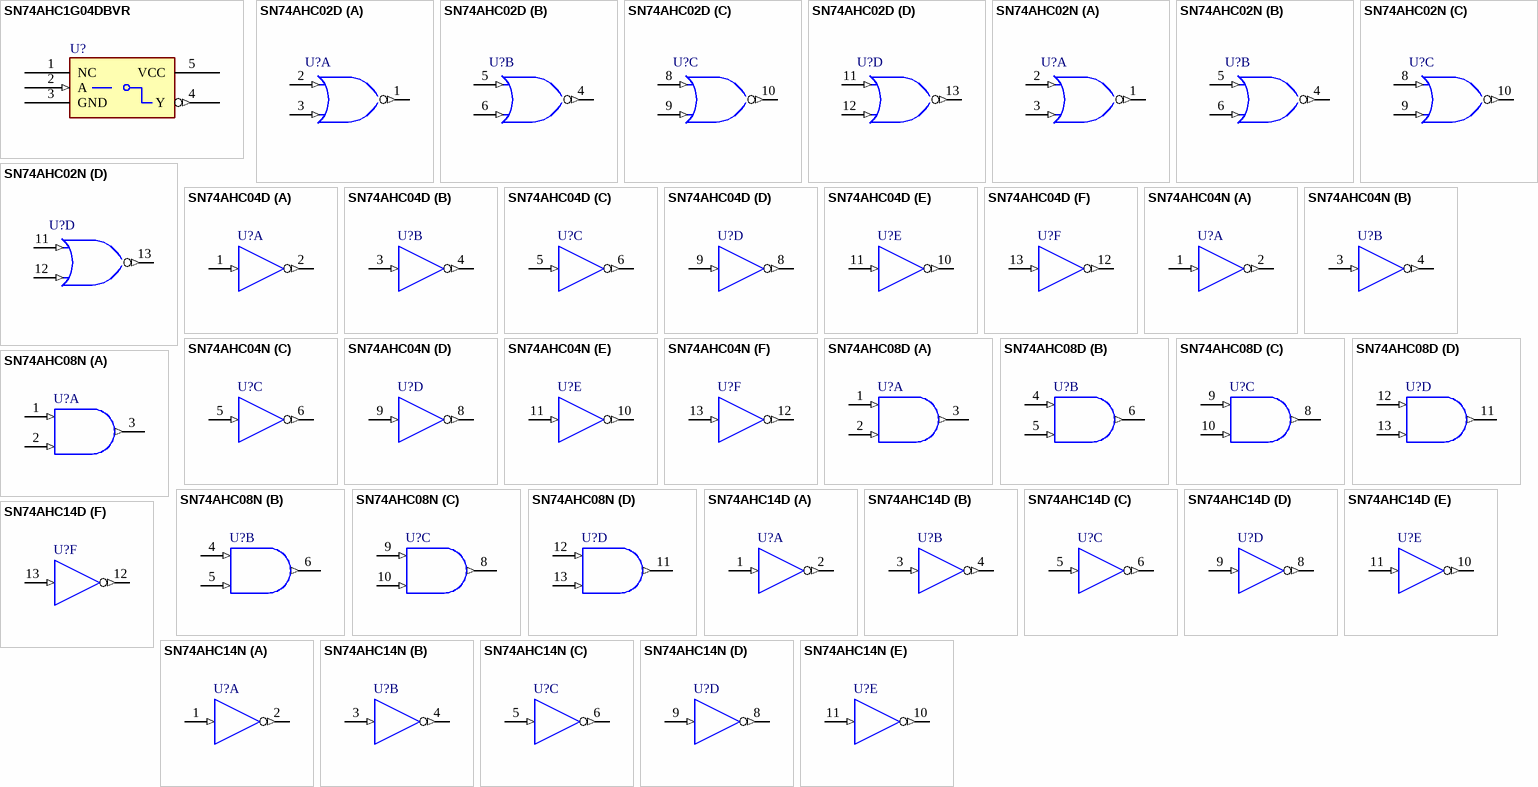
[diagram p24: symbols SN74AHC1G04DBVR to SN74AHC14N]

## SN74AHC1G04DBVR
designator U?
Single Gate Inverter; Vendor: Digikey; Published: 5-Jan-2004; DatasheetDocument: Sep-2003; Publisher: Altium Limited; ComponentLink1Description: Digikey Part Link; ComponentLink2Description: Open Datasheet; ComponentLink2URL: H:\LIBRARY\LIBRARY.Datasheet\
footprint SO-G5/P.95 (Small Outline; 5 Leads; Body 2 x 1.25 mm (LxW))
pcadlib SO-G5/P.95 (Small Outline; 5 Leads; Body 2 x 1.25 mm (LxW))
pins: 1 NC, 2 A (in), 3 GND (power), 4 Y (out), 5 VCC (power)

## SN74AHC02D
designator U?
Quadruple 2-Input Positive-NOR Gate; Published: 8-Jun-2000; LatestRevisionDate: 13-Apr-2006; LatestRevisionNote: IPC-7351 Footprint Added.; DatasheetVersion: Apr-1999; PackageVersion: Jan-1998; PackageReference: D014; Publisher: Altium Limited; PackageDescription: 14-Pin Small Outline Integrated Circuit 1.27 mm Pitch; Code_IPC: SOIC127P600-14; ComponentLink1Description: Manufacturer Link; ComponentLink1URL: http://www.ti.com/; ComponentLink2Description: Datasheet; ComponentLink2URL: http://www-s.ti.com/sc/ds/sn74ahc02.pdf; ComponentLink3Description: Packaging Specification; ComponentLink3URL: http://focus.ti.com/lit/ml/mpds177/mpds177.pdf
footprint SSOP-14 (Shrink Small Outline, Plastic, Thin; 14 Leads; Body Width 4.4 mm; Pitch 0.65 mm)
signal-integrity model SN74AHC02D
footprint SOIC14 (Small Outline; 14 Leads; Body Width 3.9 mm; Pitch 1.27 mm)
pins on every part: 7 GND (power) hidden to GND, 14 VCC (power) hidden to VCC
part A pins: 1 Y (out), 2 A (in), 3 B (in)
part B pins: 4 Y (out), 5 A (in), 6 B (in)
part C pins: 8 A (in), 9 B (in), 10 Y (out)
part D pins: 11 A (in), 12 B (in), 13 Y (out)

## SN74AHC02N
designator U?
Quadruple 2-Input Positive-NOR Gate; Published: 8-Jun-2000; LatestRevisionDate: 04-Mar-2005; LatestRevisionNote: Stylized 3D Model Added.; DatasheetVersion: Apr-1999; PackageVersion: Oct-1995; PackageReference: N014; Publisher: Altium Limited; PackageDescription: DIP; 14 Leads; Row Spacing 7.62 mm; Pitch 2.54 mm; ComponentLink1Description: Manufacturer Link; ComponentLink1URL: http://www.ti.com/; ComponentLink2Description: Datasheet; ComponentLink2URL: http://www-s.ti.com/sc/ds/sn74ahc02.pdf; ComponentLink3Description: Packaging Specification; ComponentLink3URL: http://focus.ti.com/lit/ml/mpdi002c/mpdi002c.pdf
footprint DIP14N (DIP; 14 Leads; Row Spacing 7.62 mm; Pitch 2.54 mm)
signal-integrity model SN74AHC02N
pins on every part: 7 GND (power) hidden to GND, 14 VCC (power) hidden to VCC
part A pins: 1 Y (out), 2 A (in), 3 B (in)
part B pins: 4 Y (out), 5 A (in), 6 B (in)
part C pins: 8 A (in), 9 B (in), 10 Y (out)
part D pins: 11 A (in), 12 B (in), 13 Y (out)

## SN74AHC04D
designator U?
Hex Inverter; Published: 8-Jun-2000; LatestRevisionDate: 13-Apr-2006; LatestRevisionNote: IPC-7351 Footprint Added.; DatasheetVersion: Jun-1998; PackageVersion: Jan-1998; PackageReference: D014; Publisher: Altium Limited; PackageDescription: 14-Pin Small Outline Integrated Circuit 1.27 mm Pitch; Code_IPC: SOIC127P600-14; ComponentLink1Description: Manufacturer Link; ComponentLink1URL: http://www.ti.com/; ComponentLink2Description: Datasheet; ComponentLink2URL: http://www-s.ti.com/sc/ds/sn74ahc04.pdf; ComponentLink3Description: Packaging Specification; ComponentLink3URL: http://focus.ti.com/lit/ml/mpds177/mpds177.pdf
footprint SSOP-14 (Shrink Small Outline, Plastic, Thin; 14 Leads; Body Width 4.4 mm; Pitch 0.65 mm)
signal-integrity model SN74AHC04D
footprint SOIC14 (Small Outline; 14 Leads; Body Width 3.9 mm; Pitch 1.27 mm)
pins on every part: 7 GND (power) hidden to GND, 14 VCC (power) hidden to VCC
part A pins: 1 A (in), 2 Y (out)
part B pins: 3 A (in), 4 Y (out)
part C pins: 5 A (in), 6 Y (out)
part D pins: 8 Y (out), 9 A (in)
part E pins: 10 Y (out), 11 A (in)
part F pins: 12 Y (out), 13 A (in)

## SN74AHC04N
designator U?
Hex Inverter; Published: 8-Jun-2000; LatestRevisionDate: 04-Mar-2005; LatestRevisionNote: Stylized 3D Model Added.; DatasheetVersion: Jun-1998; PackageVersion: Oct-1995; PackageReference: N014; Publisher: Altium Limited; PackageDescription: DIP; 14 Leads; Row Spacing 7.62 mm; Pitch 2.54 mm; ComponentLink1Description: Manufacturer Link; ComponentLink1URL: http://www.ti.com/; ComponentLink2Description: Datasheet; ComponentLink2URL: http://www-s.ti.com/sc/ds/sn74ahc04.pdf; ComponentLink3Description: Packaging Specification; ComponentLink3URL: http://focus.ti.com/lit/ml/mpdi002c/mpdi002c.pdf
footprint DIP14N (DIP; 14 Leads; Row Spacing 7.62 mm; Pitch 2.54 mm)
signal-integrity model SN74AHC04N
pins on every part: 7 GND (power) hidden to GND, 14 VCC (power) hidden to VCC
part A pins: 1 A (in), 2 Y (out)
part B pins: 3 A (in), 4 Y (out)
part C pins: 5 A (in), 6 Y (out)
part D pins: 8 Y (out), 9 A (in)
part E pins: 10 Y (out), 11 A (in)
part F pins: 12 Y (out), 13 A (in)

## SN74AHC08D
designator U?
Quadruple 2-Input Positive-AND Gate; Published: 8-Jun-2000; LatestRevisionDate: 13-Apr-2006; LatestRevisionNote: IPC-7351 Footprint Added.; DatasheetVersion: Jul-1998; PackageVersion: Jan-1998; PackageReference: D014; Publisher: Altium Limited; PackageDescription: 14-Pin Small Outline Integrated Circuit 1.27 mm Pitch; Code_IPC: SOIC127P600-14; ComponentLink1Description: Manufacturer Link; ComponentLink1URL: http://www.ti.com/; ComponentLink2Description: Datasheet; ComponentLink2URL: http://www-s.ti.com/sc/ds/sn74ahc08.pdf; ComponentLink3Description: Packaging Specification; ComponentLink3URL: http://focus.ti.com/lit/ml/mpds177/mpds177.pdf
footprint SSOP-14 (Shrink Small Outline, Plastic, Thin; 14 Leads; Body Width 4.4 mm; Pitch 0.65 mm)
signal-integrity model SN74AHC08D
footprint SOIC14 (Small Outline; 14 Leads; Body Width 3.9 mm; Pitch 1.27 mm)
pins on every part: 7 GND (power) hidden to GND, 14 VCC (power) hidden to VCC
part A pins: 1 A (in), 2 B (in), 3 Y (out)
part B pins: 4 A (in), 5 B (in), 6 Y (out)
part C pins: 8 Y (out), 9 A (in), 10 B (in)
part D pins: 11 Y (out), 12 A (in), 13 B (in)

## SN74AHC08N
designator U?
Quadruple 2-Input Positive-AND Gate; Published: 8-Jun-2000; LatestRevisionDate: 04-Mar-2005; LatestRevisionNote: Stylized 3D Model Added.; DatasheetVersion: Jul-1998; PackageVersion: Oct-1995; PackageReference: N014; Publisher: Altium Limited; PackageDescription: DIP; 14 Leads; Row Spacing 7.62 mm; Pitch 2.54 mm; ComponentLink1Description: Manufacturer Link; ComponentLink1URL: http://www.ti.com/; ComponentLink2Description: Datasheet; ComponentLink2URL: http://www-s.ti.com/sc/ds/sn74ahc08.pdf; ComponentLink3Description: Packaging Specification; ComponentLink3URL: http://focus.ti.com/lit/ml/mpdi002c/mpdi002c.pdf
footprint DIP14N (DIP; 14 Leads; Row Spacing 7.62 mm; Pitch 2.54 mm)
signal-integrity model SN74AHC08N
pins on every part: 7 GND (power) hidden to GND, 14 VCC (power) hidden to VCC
part A pins: 1 A (in), 2 B (in), 3 Y (out)
part B pins: 4 A (in), 5 B (in), 6 Y (out)
part C pins: 8 Y (out), 9 A (in), 10 B (in)
part D pins: 11 Y (out), 12 A (in), 13 B (in)

## SN74AHC14D
designator U?
Hex Schmitt-Trigger Inverter; Published: 8-Jun-2000; LatestRevisionDate: 13-Apr-2006; LatestRevisionNote: IPC-7351 Footprint Added.; DatasheetVersion: Jul-1998; PackageVersion: Jan-1998; PackageReference: D014; Publisher: Altium Limited; PackageDescription: 14-Pin Small Outline Integrated Circuit 1.27 mm Pitch; Code_IPC: SOIC127P600-14; ComponentLink1Description: Manufacturer Link; ComponentLink1URL: http://www.ti.com/; ComponentLink2Description: Datasheet; ComponentLink2URL: http://www-s.ti.com/sc/ds/sn74ahc14.pdf; ComponentLink3Description: Packaging Specification; ComponentLink3URL: http://focus.ti.com/lit/ml/mpds177/mpds177.pdf
footprint SSOP-14 (Shrink Small Outline, Plastic, Thin; 14 Leads; Body Width 4.4 mm; Pitch 0.65 mm)
signal-integrity model SN74AHC14D
footprint SOIC14 (Small Outline; 14 Leads; Body Width 3.9 mm; Pitch 1.27 mm)
pins on every part: 7 GND (power) hidden to GND, 14 VCC (power) hidden to VCC
part A pins: 1 A (in), 2 Y (out)
part B pins: 3 A (in), 4 Y (out)
part C pins: 5 A (in), 6 Y (out)
part D pins: 8 Y (out), 9 A (in)
part E pins: 10 Y (out), 11 A (in)
part F pins: 12 Y (out), 13 A (in)

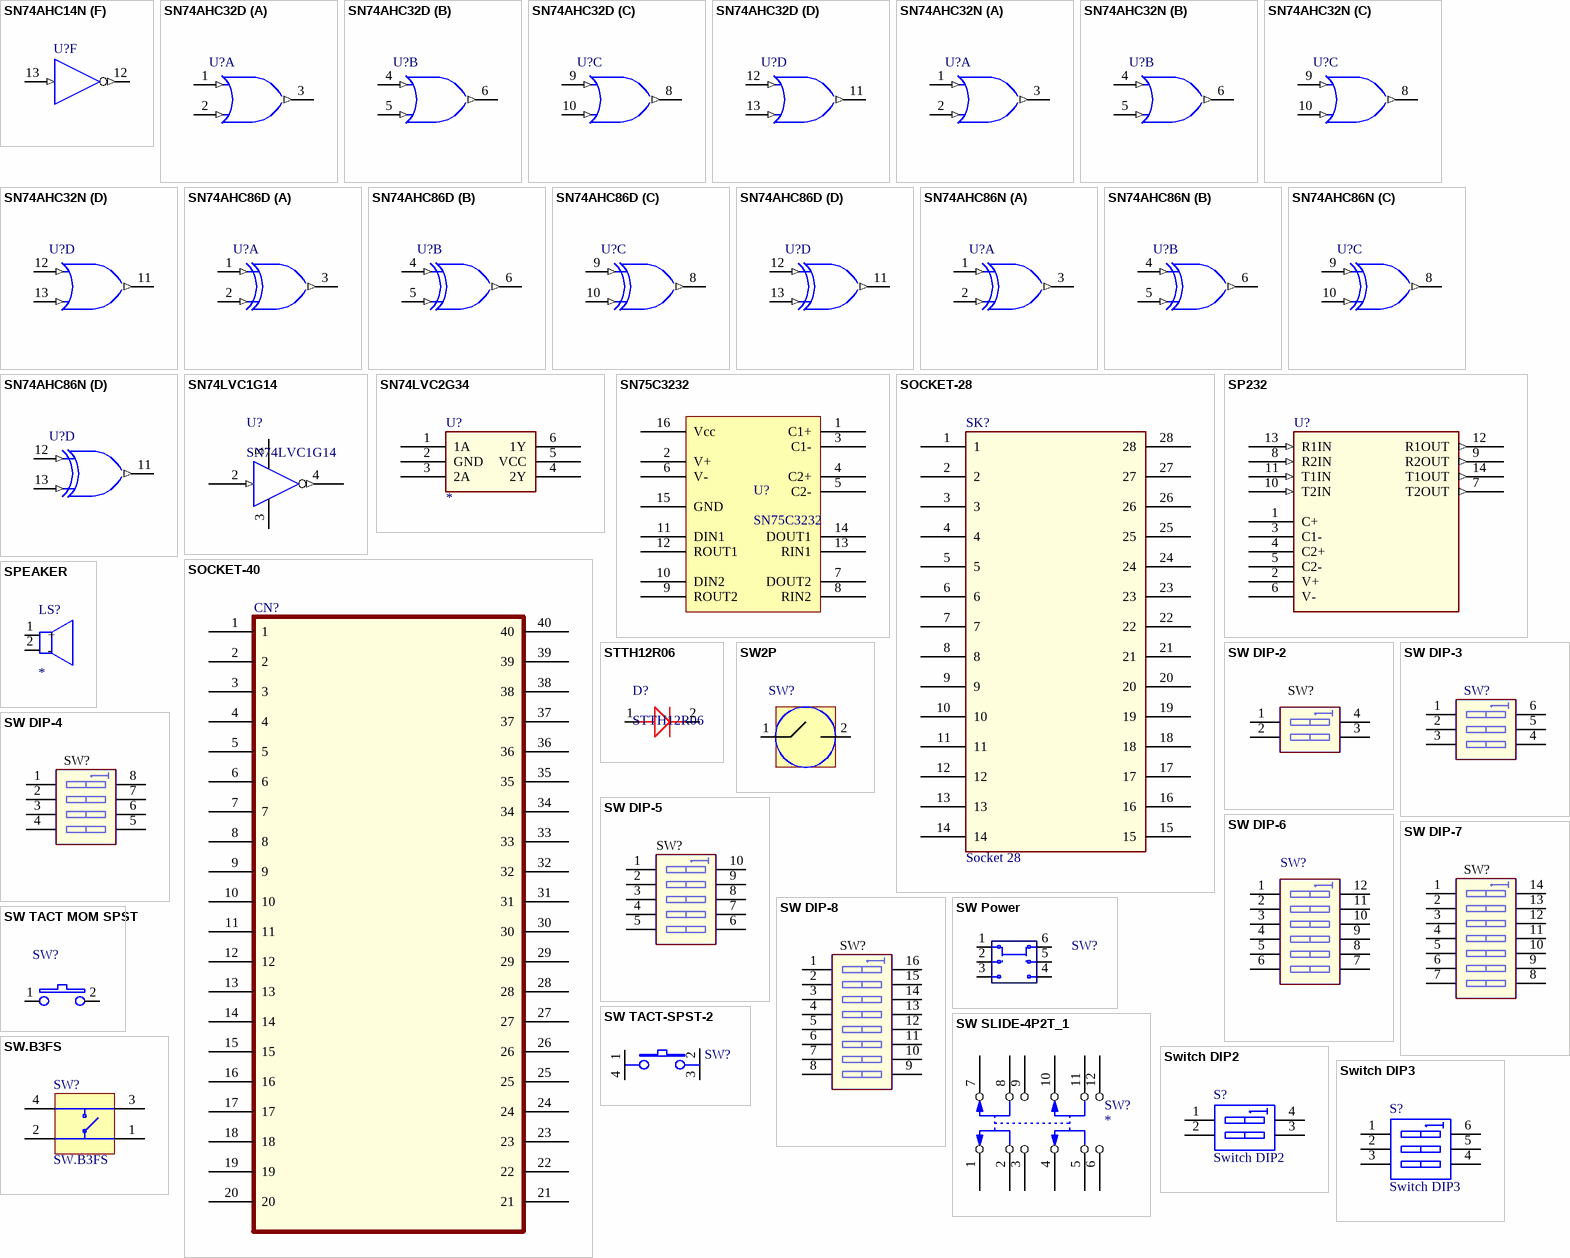
[diagram p25: symbols SN74AHC14N to Switch DIP3]

## SN74AHC14N
designator U?
Hex Schmitt-Trigger Inverter; Published: 8-Jun-2000; LatestRevisionDate: 04-Mar-2005; LatestRevisionNote: Stylized 3D Model Added.; DatasheetVersion: Jul-1998; PackageVersion: Oct-1995; PackageReference: N014; Publisher: Altium Limited; PackageDescription: DIP; 14 Leads; Row Spacing 7.62 mm; Pitch 2.54 mm; ComponentLink1Description: Manufacturer Link; ComponentLink1URL: http://www.ti.com/; ComponentLink2Description: Datasheet; ComponentLink2URL: http://www-s.ti.com/sc/ds/sn74ahc14.pdf; ComponentLink3Description: Packaging Specification; ComponentLink3URL: http://focus.ti.com/lit/ml/mpdi002c/mpdi002c.pdf
footprint DIP14N (DIP; 14 Leads; Row Spacing 7.62 mm; Pitch 2.54 mm)
signal-integrity model SN74AHC14N
pins on every part: 7 GND (power) hidden to GND, 14 VCC (power) hidden to VCC
part A pins: 1 A (in), 2 Y (out)
part B pins: 3 A (in), 4 Y (out)
part C pins: 5 A (in), 6 Y (out)
part D pins: 8 Y (out), 9 A (in)
part E pins: 10 Y (out), 11 A (in)
part F pins: 12 Y (out), 13 A (in)

## SN74AHC32D
designator U?
Quadruple 2-Input Positive-OR Gate; Published: 8-Jun-2000; LatestRevisionDate: 13-Apr-2006; LatestRevisionNote: IPC-7351 Footprint Added.; DatasheetVersion: Jul-1998; PackageVersion: Jan-1998; PackageReference: D014; Publisher: Altium Limited; PackageDescription: 14-Pin Small Outline Integrated Circuit 1.27 mm Pitch; Code_IPC: SOIC127P600-14; ComponentLink1Description: Manufacturer Link; ComponentLink1URL: http://www.ti.com/; ComponentLink2Description: Datasheet; ComponentLink2URL: http://www-s.ti.com/sc/ds/sn74ahc32.pdf; ComponentLink3Description: Packaging Specification; ComponentLink3URL: http://focus.ti.com/lit/ml/mpds177/mpds177.pdf
footprint SSOP-14 (Shrink Small Outline, Plastic, Thin; 14 Leads; Body Width 4.4 mm; Pitch 0.65 mm)
signal-integrity model SN74AHC32D
footprint SOIC14 (Small Outline; 14 Leads; Body Width 3.9 mm; Pitch 1.27 mm)
pins on every part: 7 GND (power) hidden to GND, 14 VCC (power) hidden to VCC
part A pins: 1 A (in), 2 B (in), 3 Y (out)
part B pins: 4 A (in), 5 B (in), 6 Y (out)
part C pins: 8 Y (out), 9 A (in), 10 B (in)
part D pins: 11 Y (out), 12 A (in), 13 B (in)

## SN74AHC32N
designator U?
Quadruple 2-Input Positive-OR Gate; Published: 8-Jun-2000; LatestRevisionDate: 04-Mar-2005; LatestRevisionNote: Stylized 3D Model Added.; DatasheetVersion: Jul-1998; PackageVersion: Oct-1995; PackageReference: N014; Publisher: Altium Limited; PackageDescription: DIP; 14 Leads; Row Spacing 7.62 mm; Pitch 2.54 mm; ComponentLink1Description: Manufacturer Link; ComponentLink1URL: http://www.ti.com/; ComponentLink2Description: Datasheet; ComponentLink2URL: http://www-s.ti.com/sc/ds/sn74ahc32.pdf; ComponentLink3Description: Packaging Specification; ComponentLink3URL: http://focus.ti.com/lit/ml/mpdi002c/mpdi002c.pdf
footprint DIP14N (DIP; 14 Leads; Row Spacing 7.62 mm; Pitch 2.54 mm)
signal-integrity model SN74AHC32N
pins on every part: 7 GND (power) hidden to GND, 14 VCC (power) hidden to VCC
part A pins: 1 A (in), 2 B (in), 3 Y (out)
part B pins: 4 A (in), 5 B (in), 6 Y (out)
part C pins: 8 Y (out), 9 A (in), 10 B (in)
part D pins: 11 Y (out), 12 A (in), 13 B (in)

## SN74AHC86D
designator U?
Quadruple 2-Input Exclusive-OR Gate; Published: 8-Jun-2000; LatestRevisionDate: 13-Apr-2006; LatestRevisionNote: IPC-7351 Footprint Added.; DatasheetVersion: Jul-1998; PackageVersion: Jan-1998; PackageReference: D014; Publisher: Altium Limited; PackageDescription: 14-Pin Small Outline Integrated Circuit 1.27 mm Pitch; Code_IPC: SOIC127P600-14; ComponentLink1Description: Manufacturer Link; ComponentLink1URL: http://www.ti.com/; ComponentLink2Description: Datasheet; ComponentLink2URL: http://www-s.ti.com/sc/ds/sn74ahc86.pdf; ComponentLink3Description: Packaging Specification; ComponentLink3URL: http://focus.ti.com/lit/ml/mpds177/mpds177.pdf
footprint SSOP-14 (Shrink Small Outline, Plastic, Thin; 14 Leads; Body Width 4.4 mm; Pitch 0.65 mm)
signal-integrity model SN74AHC86D
footprint SOIC14 (Small Outline; 14 Leads; Body Width 3.9 mm; Pitch 1.27 mm)
pins on every part: 7 GND (power) hidden to GND, 14 VCC (power) hidden to VCC
part A pins: 1 A (in), 2 B (in), 3 Y (out)
part B pins: 4 A (in), 5 B (in), 6 Y (out)
part C pins: 8 Y (out), 9 A (in), 10 B (in)
part D pins: 11 Y (out), 12 A (in), 13 B (in)

## SN74AHC86N
designator U?
Quadruple 2-Input Exclusive-OR Gate; Published: 8-Jun-2000; LatestRevisionDate: 04-Mar-2005; LatestRevisionNote: Stylized 3D Model Added.; DatasheetVersion: Jul-1998; PackageVersion: Oct-1995; PackageReference: N014; Publisher: Altium Limited; PackageDescription: DIP; 14 Leads; Row Spacing 7.62 mm; Pitch 2.54 mm; ComponentLink1Description: Manufacturer Link; ComponentLink1URL: http://www.ti.com/; ComponentLink2Description: Datasheet; ComponentLink2URL: http://www-s.ti.com/sc/ds/sn74ahc86.pdf; ComponentLink3Description: Packaging Specification; ComponentLink3URL: http://focus.ti.com/lit/ml/mpdi002c/mpdi002c.pdf
footprint DIP14N (DIP; 14 Leads; Row Spacing 7.62 mm; Pitch 2.54 mm)
signal-integrity model SN74AHC86N
pins on every part: 7 GND (power) hidden to GND, 14 VCC (power) hidden to VCC
part A pins: 1 A (in), 2 B (in), 3 Y (out)
part B pins: 4 A (in), 5 B (in), 6 Y (out)
part C pins: 8 Y (out), 9 A (in), 10 B (in)
part D pins: 11 Y (out), 12 A (in), 13 B (in)

## SN74LVC1G14
designator U?
Single Schmitt-trigger Inverter
footprint SOT23-2.9x1.6-0.95-5AL (SOT23, 5-Leads, Body 2.9x1.6mm, Pitch 0.95mm, Lead Span 2.8mm, IPC High Density)
pins: 2 A (in), 3 GND, 4 Y (out), 5 Vcc

## SN74LVC2G34
designator U?
Dual Buffer Gate; Manufacturer: Texas Instruments; Volt: 1.65-5.5V; ComponentLink1Description: Digikey Part Link; ComponentLink2Description: Open Datasheet; ComponentLink2URL: H:\LIBRARY\LIBRARY.Datasheet\; Technology: CMOS
footprint SOT23-DBV
pins: 1 1A, 2 GND, 3 2A, 4 2Y, 5 VCC, 6 1Y

## SN75C3232
designator U?
3.3V Multichannel RS-232 Compatible Line Driver/Receiver
footprint SOIC-16N (SOIC, 16-Leads, Body 9.9x3.9mm, Pitch 1.27mm, IPC High Density)
pins: 1 C1+, 2 V+, 3 C1-, 4 C2+, 5 C2-, 6 V-, 7 DOUT2, 8 RIN2, 9 ROUT2, 10 DIN2, 11 DIN1, 12 ROUT1, 13 RIN1, 14 DOUT1, 15 GND, 16 Vcc

## SOCKET-28
designator SK?, comment Socket 28
ComponentLink1Description: Digikey Part link; ComponentLink2Description: Open DataSheet; ComponentLink2URL: H:\LIBRARY\LIBRARY.Datasheet\
footprint DIP300-28 (DIP, Plastic, Skinny; 28 Leads; Row Spacing 7.62 mm; Pitch 2.54 mm)
pins: 1, 2, 3, 4, 5, 6, 7, 8, 9, 10, 11, 12, 13, 14, 15, 16, 17, 18, 19, 20, 21, 22, 23, 24, 25, 26, 27, 28

## SOCKET-40
designator CN?  (value not drawn)
Socket 40; ComponentLink1Description: Digikey Part link; ComponentLink2Description: Open DataSheet; ComponentLink2URL: H:\LIBRARY\LIBRARY.Datasheet\
footprint DIP600-40 (DIP, Plastic; 40 Leads; Row Spacing 15.24 mm; Pitch 2.54 mm)
pins: 1, 2, 3, 4, 5, 6, 7, 8, 9, 10, 11, 12, 13, 14, 15, 16, 17, 18, 19, 20, 21, 22, 23, 24, 25, 26, 27, 28, 29, 30, 31, 32, 33, 34, 35, 36, 37, 38, 39, 40

## SP232
designator U?  (value not drawn)
Enhanced RS-232 Line Drivers/Receivers; Manufacturer: Sipex; Vendor: Digikey; Volt: 5V; Data Rate (Max): 120kbps; Published: 13-April-2009; Publisher: Hoang Nguyen; ComponentLink1Description: Digikey Part Link; ComponentLink2Description: Open Datasheet; ComponentLink2URL: H:\LIBRARY\LIBRARY.Datasheet\
pins: 1 C+, 2 V+, 3 C1-, 4 C2+, 5 C2-, 6 V-, 7 T2OUT (out), 8 R2IN (in), 9 R2OUT (out), 10 T2IN (in), 11 T1IN (in), 12 R1OUT (out), 13 R1IN (in), 14 T1OUT (out), 15 GND (power) hidden to GND, 16 VCC (power) hidden to VCC

## SPEAKER
designator LS?
Vendor: Digikey; Published: 13-April-2009; Publisher: Hoang Nguyen; ComponentLink1Description: Digikey Part Link; ComponentLink2Description: Open Datasheet; ComponentLink2URL: H:\LIBRARY\LIBRARY.Datasheet\
footprint speaker (Speaker footprint)
footprint buzz (Speaker footprint)
pins: 1 +, 2 -

## STTH12R06
designator D?
shottky diode 12A 600V
footprint STTH12R06 (schotky diode 12A 600V)
pins: 1, 2

## SW2P
designator SW?  (value not drawn)
footprint SW2P
pins: 1, 2

## SW DIP-2
designator SW?
DIP Switch, 2 Position, SPST; Vendor: Digikey; Published: 24-Mar-1999; LatestRevisionDate: 17-Jul-2002; LatestRevisionNote: Re-released for DXP Platform.; PackageReference: DIP-4; Publisher: Altium Limited; ComponentLink1Description: Digikey Part Link; ComponentLink2Description: Open Datasheet; ComponentLink2URL: H:\LIBRARY\LIBRARY.Datasheet\
footprint DIPSW2
pins: 1 A1, 2 A2, 3 B2, 4 B1

## SW DIP-3
designator SW?
DIP Switch, 3 Position, SPST; Vendor: Digikey; Published: 24-Mar-1999; LatestRevisionDate: 17-Jul-2002; LatestRevisionNote: Re-released for DXP Platform.; PackageReference: DIP-6; Publisher: Altium Limited; Code_JEDEC: MO-001-AM; ComponentLink1Description: Digikey Part Link; ComponentLink2Description: Open Datasheet; ComponentLink2URL: H:\LIBRARY\LIBRARY.Datasheet\
footprint DIPSW3
footprint DIPSW3N
pins: 1 A1, 2 A2, 3 A3, 4 B3, 5 B2, 6 B1

## SW DIP-4
designator SW?
DIP Switch, 4 Position, SPST; Vendor: Digikey; Published: 24-Mar-1999; LatestRevisionDate: 17-Jul-2002; LatestRevisionNote: Re-released for DXP Platform.; PackageReference: SO8; Publisher: Altium Limited; Code_JEDEC: MS-012-AA; Code_IPC: SO8; ComponentLink1Description: Digikey Part Link; ComponentLink2Description: Open Datasheet; ComponentLink2URL: H:\LIBRARY\LIBRARY.Datasheet\
footprint DIPSW4
pins: 1 A1, 2 A2, 3 A3, 4 A4, 5 B4, 6 B3, 7 B2, 8 B1

## SW DIP-5
designator SW?
DIP Switch, 5 Position, SPST; Vendor: Digikey; Published: 24-Mar-1999; LatestRevisionDate: 17-Jul-2002; LatestRevisionNote: Re-released for DXP Platform.; PackageReference: N10A; Publisher: Altium Limited; ComponentLink1Description: Digikey Part Link; ComponentLink2Description: Open Datasheet; ComponentLink2URL: H:\LIBRARY\LIBRARY.Datasheet\
footprint DIPSW5
pins: 1 A1, 2 A2, 3 A3, 4 A4, 5 A5, 6 B5, 7 B4, 8 B3, 9 B2, 10 B1

## SW DIP-6
designator SW?
DIP Switch, 6 Position, SPST; Vendor: Digikey; Published: 24-Mar-1999; LatestRevisionDate: 17-Jul-2002; LatestRevisionNote: Re-released for DXP Platform.; PackageReference: DIP-12/SW; Publisher: Altium Limited; ComponentLink1Description: Digikey Part Link; ComponentLink2Description: Open Datasheet; ComponentLink2URL: H:\LIBRARY\LIBRARY.Datasheet\
footprint DIPSW6
pins: 1 A1, 2 A2, 3 A3, 4 A4, 5 A5, 6 A6, 7 B6, 8 B5, 9 B4, 10 B3, 11 B2, 12 B1

## SW DIP-7
designator SW?
DIP Switch, 7 Position, SPST; Vendor: Digikey; Published: 24-Mar-1999; LatestRevisionDate: 17-Jul-2002; LatestRevisionNote: Re-released for DXP Platform.; PackageReference: DIP-14; Publisher: Altium Limited; Code_JEDEC: MO-001-AF; ComponentLink1Description: Digikey Part Link; ComponentLink2Description: Open Datasheet; ComponentLink2URL: H:\LIBRARY\LIBRARY.Datasheet\
footprint DIPSW7
pins: 1 A1, 2 A2, 3 A3, 4 A4, 5 A5, 6 A6, 7 A7, 8 B7, 9 B6, 10 B5, 11 B4, 12 B3, 13 B2, 14 B1

## SW DIP-8
designator SW?
DIP Switch, 8 Position, SPST; Vendor: Digikey; Published: 24-Mar-1999; LatestRevisionDate: 17-Jul-2002; LatestRevisionNote: Re-released for DXP Platform.; PackageReference: DIP_SW_8WAY_SMD; Publisher: Altium Limited; ComponentLink1Description: Digikey Part Link; ComponentLink2Description: Open Datasheet; ComponentLink2URL: H:\LIBRARY\LIBRARY.Datasheet\
footprint DIPSW8
footprint DIPSW8N (DIPS SWITCHES 8)
pins: 1 A1, 2 A2, 3 A3, 4 A4, 5 A5, 6 A6, 7 A7, 8 A8, 9 B8, 10 B7, 11 B6, 12 B5, 13 B4, 14 B3, 15 B2, 16 B1

## SW Power
designator SW?  (value not drawn)
Switch Power 6 pins; Vendor: Digikey; Published: 13-April-2009; Publisher: Hoang Nguyen; ComponentLink1Description: Digikey Part Link; ComponentLink2Description: Open Datasheet; ComponentLink2URL: H:\LIBRARY\LIBRARY.Datasheet\; Price: 1000 VND
footprint Switch Power 6 pins
pins: 1, 2, 3, 4, 5, 6

## SW SLIDE-4P2T_1
designator SW?
ComponentLink1Description: Digikey Part Link; ComponentLink2Description: Open Datasheet; ComponentLink2URL: H:\LIBRARY\LIBRARY.Datasheet\
pins: 1, 2, 3, 4, 5, 6, 7, 8, 9, 10, 11, 12

## SW TACT MOM SPST
designator SW?, comment PTS635  (value not drawn)
SWITCH TACT MOM SPST SMD; Manufacturer: C&K Components; Manufacturer P/N: PTS635SL25SMTR LFS; Vendor: Digikey; Vendor P/N: CKN9119CT-ND; ComponentLink1URL: http://search.digikey.com/scripts/DkSearch/dksus.dll?Detail&name=CKN1573CT-ND; ComponentLink2URL: H:\LIBRARY\LIBRARY.Datasheet\SBLCDA4_Specification.pdf; ComponentLink1Description: Digikey Part Link; ComponentLink2Description: Open Datasheet; Publisher: Hoang Nguyen; Published: 13-April-2009
footprint TactSwitches.PTS635.SMT (3,5 mm Tact Switches, PTS635 Series)
pins: 1, 2

## SW TACT-SPST-2
designator SW?  (value not drawn)
Switch TACT-SPST-2; Vendor: Digikey; Published: 13-April-2009; Publisher: Hoang Nguyen; ComponentLink1Description: Digikey Part Link; ComponentLink2Description: Open Datasheet; ComponentLink2URL: H:\LIBRARY\LIBRARY.Datasheet\; Price: 800VND
footprint TactSwitches SPST-NO (SWITCH TACT 6MM 230GF H=4.3MM)
footprint Button Switches
pins: 1 3, 2 4, 3 2, 4 1

## SW.B3FS
designator SW?
SPNA SMD Keyboard Switch (TACT Switch); Vendor: Digikey; Published: 5-Jan-2004; Publisher: Altium Limited; ComponentLink1Description: Digikey Part Link; ComponentLink2Description: Open Datasheet; ComponentLink2URL: H:\LIBRARY\LIBRARY.Datasheet\
footprint B3FS_SWITCH (Surface Mount DTSM Tact Switch; Body 6 x 6 mm (LxW))
pcadlib B3FS_SWITCH (Surface Mount DTSM Tact Switch; Body 6 x 6 mm (LxW))
pins: 1, 2, 3, 4

## Switch DIP2
designator S?
DIP Switch, 2 Position, SPST; Published: 24-Mar-1999; LatestRevisionDate: 17-Jul-2002; LatestRevisionNote: Re-released for DXP Platform.; PackageReference: DIP-4; Publisher: Altium Limited
footprint SW DIP-2 (Switch; 4 Leads; Solder Pad 35mil)
pins: 1 A1, 2 A2, 3 B2, 4 B1

## Switch DIP3
designator S?
DIP Switch, 3 Position, SPST; Published: 24-Mar-1999; LatestRevisionDate: 17-Jul-2002; LatestRevisionNote: Re-released for DXP Platform.; PackageReference: DIP-6; Publisher: Altium Limited; Code_JEDEC: MO-001-AM
footprint SW DIP-3 (Switch; 6 Leads; Solder Pad 35mil)
pins: 1 A1, 2 A2, 3 A3, 4 B3, 5 B2, 6 B1

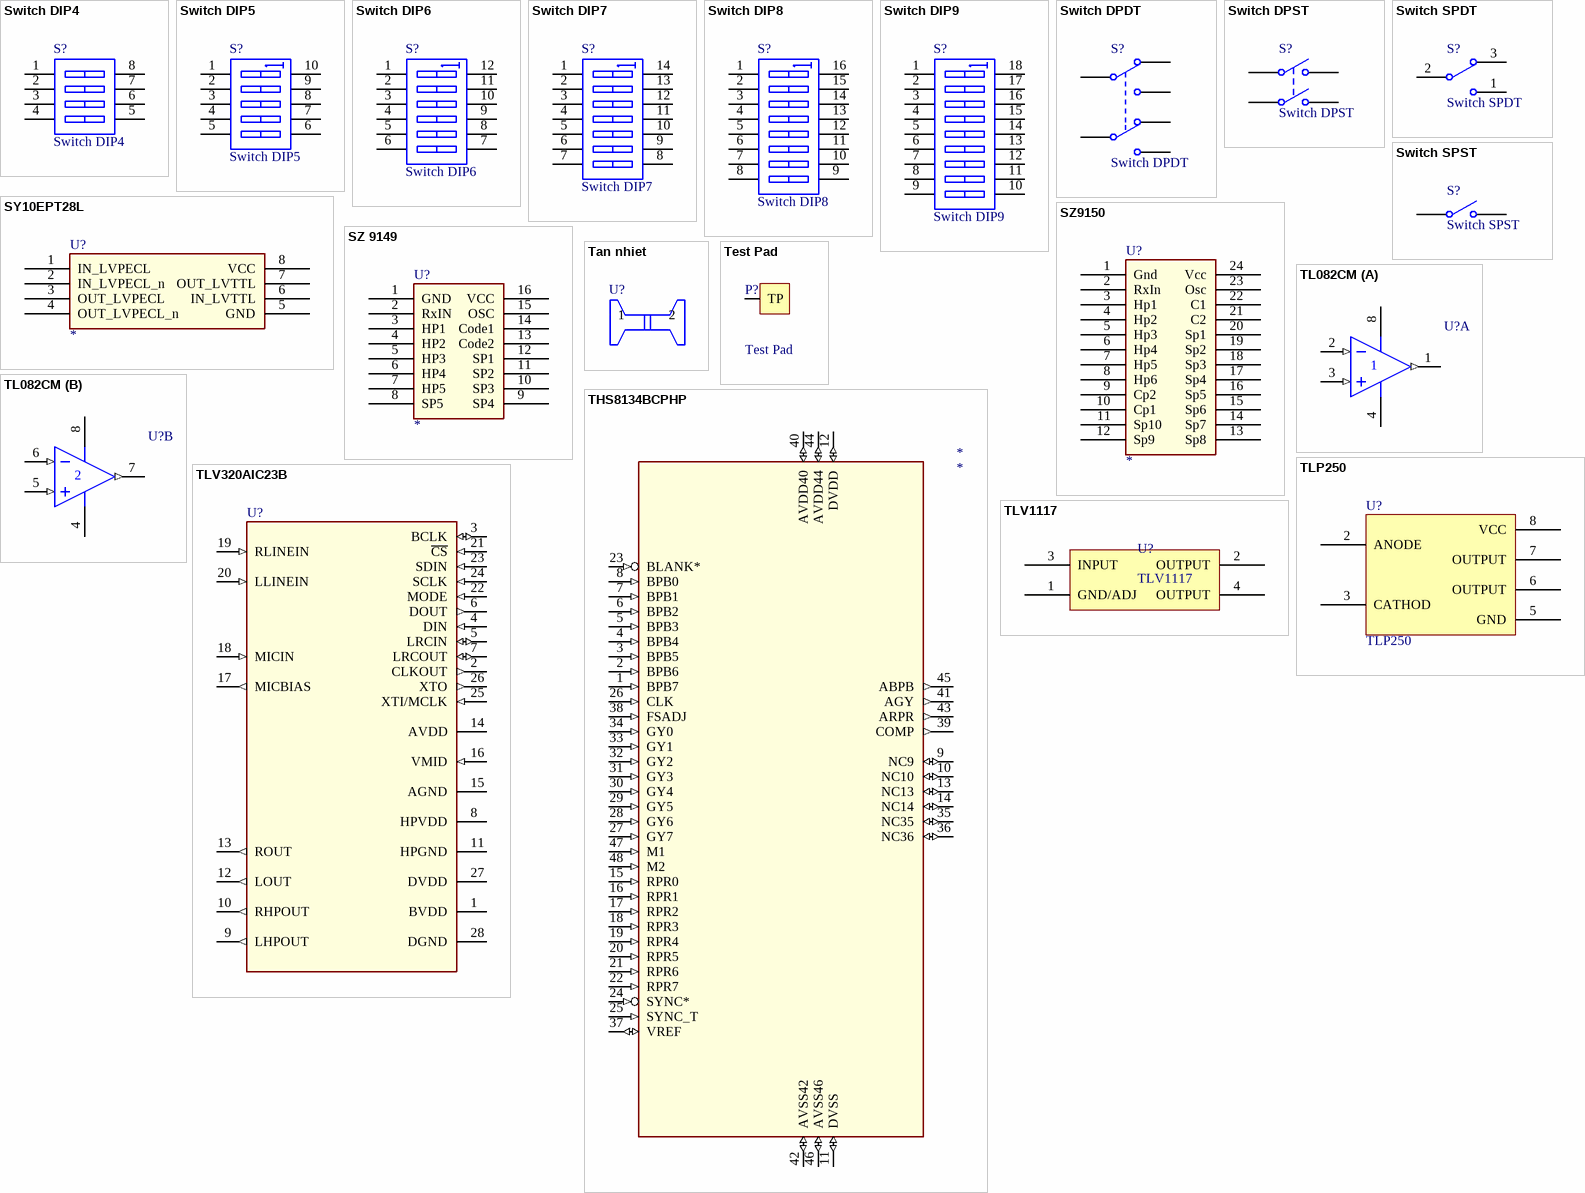
[diagram p26: symbols Switch DIP4 to TLV1117]

## Switch DIP4
designator S?
DIP Switch, 4 Position, SPST; Published: 24-Mar-1999; LatestRevisionDate: 17-Jul-2002; LatestRevisionNote: Re-released for DXP Platform.; PackageReference: SO8; Publisher: Altium Limited; Code_JEDEC: MS-012-AA; Code_IPC: SO8
footprint SW DIP-4 (Switch; 8 Leads; Solder Pad 35mil)
pins: 1 A1, 2 A2, 3 A3, 4 A4, 5 B4, 6 B3, 7 B2, 8 B1

## Switch DIP5
designator S?
DIP Switch, 5 Position, SPST; Published: 24-Mar-1999; LatestRevisionDate: 17-Jul-2002; LatestRevisionNote: Re-released for DXP Platform.; PackageReference: N10A; Publisher: Altium Limited
footprint N10A (DIP; 10 Leads; Row Spacing 7.62 mm; Pitch 2.54 mm)
pins: 1 A1, 2 A2, 3 A3, 4 A4, 5 A5, 6 B5, 7 B4, 8 B3, 9 B2, 10 B1

## Switch DIP6
designator S?
DIP Switch, 6 Position, SPST; Published: 24-Mar-1999; LatestRevisionDate: 17-Jul-2002; LatestRevisionNote: Re-released for DXP Platform.; PackageReference: DIP-12/SW; Publisher: Altium Limited
footprint DIP-12/SW (DIP Switch; 12 Leads)
pins: 1 A1, 2 A2, 3 A3, 4 A4, 5 A5, 6 A6, 7 B6, 8 B5, 9 B4, 10 B3, 11 B2, 12 B1

## Switch DIP7
designator S?
DIP Switch, 7 Position, SPST; Published: 24-Mar-1999; LatestRevisionDate: 17-Jul-2002; LatestRevisionNote: Re-released for DXP Platform.; PackageReference: DIP-14; Publisher: Altium Limited; Code_JEDEC: MO-001-AF
footprint DIP-14 (DIP; 14 Leads; Row Spacing 7.62 mm; Pitch 2.54 mm)
pins: 1 A1, 2 A2, 3 A3, 4 A4, 5 A5, 6 A6, 7 A7, 8 B7, 9 B6, 10 B5, 11 B4, 12 B3, 13 B2, 14 B1

## Switch DIP8
designator S?
DIP Switch, 8 Position, SPST; Published: 24-Mar-1999; LatestRevisionDate: 17-Jul-2002; LatestRevisionNote: Re-released for DXP Platform.; PackageReference: DIP_SW_8WAY_SMD; Publisher: Altium Limited
footprint SW DIP-8 (Switch; 16 Leads; Solder Pad 35mil)
pins: 1 A1, 2 A2, 3 A3, 4 A4, 5 A5, 6 A6, 7 A7, 8 A8, 9 B8, 10 B7, 11 B6, 12 B5, 13 B4, 14 B3, 15 B2, 16 B1

## Switch DIP9
designator S?
DIP Switch, 9 Position, SPST; Published: 24-Mar-1999; LatestRevisionDate: 17-Jul-2002; LatestRevisionNote: Re-released for DXP Platform.; PackageReference: DIP-18; Publisher: Altium Limited; Code_JEDEC: MO-036-AE
footprint DIP-18 (DIP; 18 Leads; Row Spacing 7.62 mm; Pitch 2.54 mm)
pins: 1 A1, 2 A2, 3 A3, 4 A4, 5 A5, 6 A6, 7 A7, 8 A8, 9 A9, 10 B9, 11 B8, 12 B7, 13 B6, 14 B5, 15 B4, 16 B3, 17 B2, 18 B1

## Switch DPDT
designator S?
Double-Pole, Double-Throw Switch; Published: 24-Mar-1999; LatestRevisionDate: 17-Jul-2002; LatestRevisionNote: Re-released for DXP Platform.; PackageReference: SOT23-6; Publisher: Altium Limited
footprint DPDT (Double-Pole, Double-Throw Switch; 6 Leads; Solder Pad 35mil)
pins: 1 COMMON1, 2 NC1, 3 NO1, 4 COMMON2, 5 NC2, 6 NO2

## Switch DPST
designator S?
Double-Pole, Single-Throw Switch; Published: 24-Mar-1999; LatestRevisionDate: 17-Jul-2002; LatestRevisionNote: Re-released for DXP Platform.; PackageReference: DPST-4; Publisher: Altium Limited
footprint DPST (Double-Pole, Single-Throw Switch; 4 Leads)
footprint DPST-SMD (Double-Pole, Single-Throw Switch; 4 Leads; Solder Pad 35mil)
pins: 1 COMMON1, 2 NO1, 3 NO2, 4 COMMON2